# Altium schematic symbol library kmilo17pet-LT_PMIC_LT.SchLib: 2252 symbols (part 117 of 124)
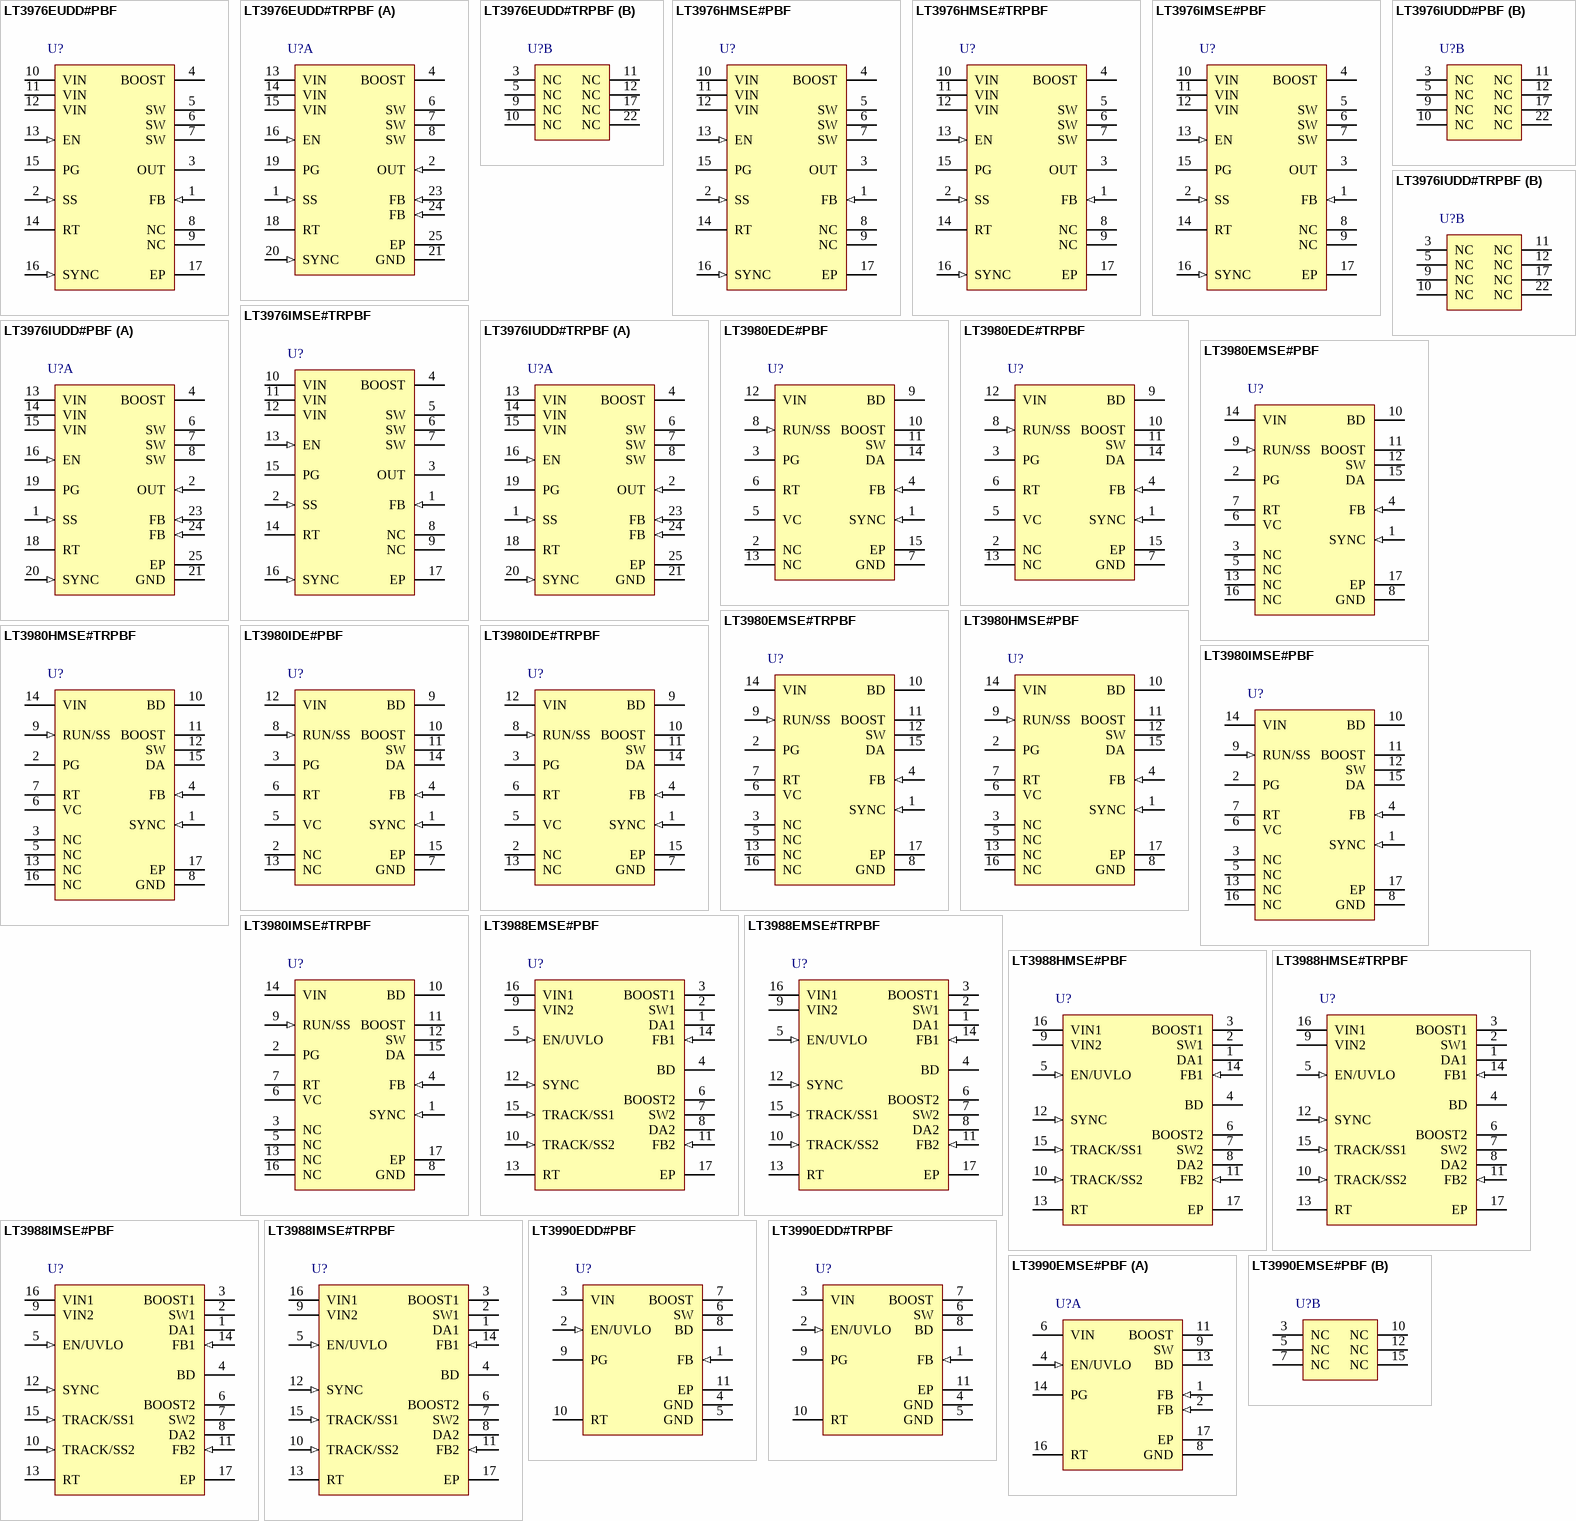
[diagram p187: symbols LT3976EUDD#PBF to LT3990EMSE#PBF]

## LT3988IMSE#TRPBF
designator U?
Dual 60 V Monolithic 1 A Step-Down Switching Regulator, 16-pin SOP (MSE-16-EDP), -40 to 125 degC, Pb-Free, Tape and Reel; Manufacturer: Linear Technology; PartNumber: LT3988IMSE#TRPBF; Number of Outputs: 2; PackageReference: MSE-16; PackageDescription: 16-Pin Plastic MSOP, Exposed Die Pad, Body 4.039 x 3 mm, Pitch 0.5 mm; Supplier 1: Digi-Key; Supplier Part Number 1: LT3988IMSE#TRPBF-ND; RoHS: TRUE
footprint LT-MSE-16-EDP_N (SOP, 16-Leads, Body 4.1x3.1mm, Pitch 0.5mm, Thermal Pad 2.95x1.76mm, IPC Medium Density)
footprint LT-MSE-16-EDP_L (SOP, 16-Leads, Body 4.1x3.1mm, Pitch 0.5mm, Thermal Pad 2.95x1.76mm, IPC High Density)
footprint LT-MSE-16-EDP_M (SOP, 16-Leads, Body 4.1x3.1mm, Pitch 0.5mm, Thermal Pad 2.95x1.76mm, IPC Low Density)
pins: 1 DA1 "Tie the DA pin to the anode of the external Schottky catch diode. If the DA pin current exceeds 1.32A, which could occur in an overload or short-circuit condition, switching is disabled until the DA pin current falls below 1.(See Datasheet)", 2 SW1 (power) "The SW pins are the outputs of the internal power switches. Connect these pins to the inductors, catch diodes and boost capacitors.", 3 BOOST1 "The BOOST pins are used to provide drive voltages, higher than the input voltage, to the internal NPN power switches.", 4 BD (power) "Internal boost diodes are connected between the BD pin and the BOOST pins. Connect BD to a 3V or higher supply, such as VOUT.", 5 EN/UVLO (in) "This pin is used to shut down the LT3988. It can be driven from a logic level, tied directly to the input, or used as an undervoltage lockout by connecting a resistor divider from VIN1.", 6 BOOST2 "The BOOST pins are used to provide drive voltages, higher than the input voltage, to the internal NPN power switches.", 7 SW2 (power) "The SW pins are the outputs of the internal power switches. Connect these pins to the inductors, catch diodes and boost capacitors.", 8 DA2 "Tie the DA pin to the anode of the external Schottky catch diode. If the DA pin current exceeds 1.32A, which could occur in an overload or short-circuit condition, switching is disabled until the DA pin current falls below 1.(See Datasheet)", 9 VIN2 (power) "The VIN2 pin supplies current to the internal power switch connected to SW2 and must be locally bypassed. Connect this pin directly to VIN1 unless power for channel 2 is coming from a different source. VIN2 must be greater (See Datasheet)", 10 TRACK/SS2 (in) "The TRACK/SS pins are used to soft-start the two channels, to allow one channel to track the other output, or to allow both channels to track another output. For tracking, tie a resistor divider to this pin from the tracked (See Datasheet)", 11 FB2 (in) "The LT3988 regulates each feedback pin to 0.750V. Connect the feedback resistor divider taps to these pins.", 12 SYNC (in) "To synchronize the part to an external frequency, drive the SYNC pin with a logic-level signal with positive and negative pulse widths of at least 100ns. If the SYNC function is not used, connect the SYNC pin to ground. If (See Datasheet)", 13 RT "The RT pin is used to set the internal oscillator frequency. Tie a resistor from RT to GND for the desired switching frequency.", 14 FB1 (in) "The LT3988 regulates each feedback pin to 0.750V. Connect the feedback resistor divider taps to these pins.", 15 TRACK/SS1 (in) "The TRACK/SS pins are used to soft-start the two channels, to allow one channel to track the other output, or to allow both channels to track another output. For tracking, tie a resistor divider to this pin from the tracked (See Datasheet)", 16 VIN1 (power) "The VIN1 pin supplies current to the LT3988 internal circuitry and to the internal power switch connected to SW1 and must be locally bypassed. VIN1 must be greater than 3.9V (typ) for channel 1 or channel 2 to operate.", 17 EP (power) "The exposed pad metal of the package provides both electrical contact to ground and good thermal contact to the printed circuit board. The exposed pad must be soldered to the circuit board for proper operation."

## LT3990EDD#PBF
designator U?
350 mA Step-Down Regulator with 2.5 uA Quiescent Current and Integrated Diodes, 10-pin SON (DD-10), -40 to 125 degC, Pb-Free; Manufacturer: Linear Technology; PartNumber: LT3990EDD#PBF; Number of Outputs: 1; PackageReference: DD-10; PackageDescription: 10-Pin Plastic DFN, Body 3 x 3 mm, Pitch 0.5 mm; Supplier 1: Digi-Key; Supplier Part Number 1: LT3990EDD#PBF-ND; RoHS: TRUE
footprint LT-DD-10_V (SON, 10-Leads, Body 3x3mm, Pitch 0.5mm, Thermal Pad 2.38x1.65mm)
pins: 1 FB (in) "The LT3990 regulates the FB pin to 1.21V. Connect the feedback resistor divider tap to this pin. The two FB pins on the MSE package are connected internally and provide a redundant path for the feedback divider. Tie the (See Datasheet)", 2 EN/UVLO (in) "The part is in shutdown when this pin is low and active when this pin is high. The threshold voltage is 1.19V going up with 35mV of hysteresis. Tie to VIN if shutdown feature is not used. The EN/UVLO threshold is accurate (See Datasheet)", 3 VIN (power) "The VIN pin supplies current to the LT3990’s internal circuitry and to the internal power switch. This pin must be locally bypassed.", 4 GND (power) "Ground.", 5 GND (power) "Ground.", 6 SW (power) "The SW pin is the output of an internal power switch. Connect this pin to the inductor.", 7 BOOST "This pin is used to provide a drive voltage, higher than the input voltage, to the internal bipolar NPN power switch.", 8 BD (power) "This pin connects to the anode of the boost diode. This pin also supplies current to the LT3990’s internal regulator when BD is above 3.2V.", 9 PG (oc) "The PG pin is the open-drain output of an internal comparator. PG remains low until the FB pin is within 10% of the final regulation voltage. PG is valid when VIN is above 4.2V and EN/UVLO is high.", 10 RT "A resistor is tied between RT and ground to set the switching frequency.", 11 EP (power) "The exposed pad must be soldered to the PCB."

## LT3990EDD#TRPBF
designator U?
350 mA Step-Down Regulator with 2.5 uA Quiescent Current and Integrated Diodes, 10-pin SON (DD-10), -40 to 125 degC, Pb-Free, Tape and Reel; Manufacturer: Linear Technology; PartNumber: LT3990EDD#TRPBF; Number of Outputs: 1; PackageReference: DD-10; PackageDescription: 10-Pin Plastic DFN, Body 3 x 3 mm, Pitch 0.5 mm; Supplier 1: Digi-Key; Supplier Part Number 1: LT3990EDD#TRPBF-ND; RoHS: TRUE
footprint LT-DD-10_V (SON, 10-Leads, Body 3x3mm, Pitch 0.5mm, Thermal Pad 2.38x1.65mm)
pins: 1 FB (in) "The LT3990 regulates the FB pin to 1.21V. Connect the feedback resistor divider tap to this pin. The two FB pins on the MSE package are connected internally and provide a redundant path for the feedback divider. Tie the (See Datasheet)", 2 EN/UVLO (in) "The part is in shutdown when this pin is low and active when this pin is high. The threshold voltage is 1.19V going up with 35mV of hysteresis. Tie to VIN if shutdown feature is not used. The EN/UVLO threshold is accurate (See Datasheet)", 3 VIN (power) "The VIN pin supplies current to the LT3990’s internal circuitry and to the internal power switch. This pin must be locally bypassed.", 4 GND (power) "Ground.", 5 GND (power) "Ground.", 6 SW (power) "The SW pin is the output of an internal power switch. Connect this pin to the inductor.", 7 BOOST "This pin is used to provide a drive voltage, higher than the input voltage, to the internal bipolar NPN power switch.", 8 BD (power) "This pin connects to the anode of the boost diode. This pin also supplies current to the LT3990’s internal regulator when BD is above 3.2V.", 9 PG (oc) "The PG pin is the open-drain output of an internal comparator. PG remains low until the FB pin is within 10% of the final regulation voltage. PG is valid when VIN is above 4.2V and EN/UVLO is high.", 10 RT "A resistor is tied between RT and ground to set the switching frequency.", 11 EP (power) "The exposed pad must be soldered to the PCB."

## LT3990EMSE#PBF
designator U?
350 mA Step-Down Regulator with 2.5 uA Quiescent Current and Integrated Diodes, 16-pin SOP (MSE-16-EDP), -40 to 125 degC, Pb-Free; Manufacturer: Linear Technology; PartNumber: LT3990EMSE#PBF; Number of Outputs: 1; PackageReference: MSE-16; PackageDescription: 16-Pin Plastic MSOP, Exposed Die Pad, Body 4.039 x 3 mm, Pitch 0.5 mm; Supplier 1: Digi-Key; Supplier Part Number 1: LT3990EMSE#PBF-ND; RoHS: TRUE
footprint LT-MSE-16-EDP_N (SOP, 16-Leads, Body 4.1x3.1mm, Pitch 0.5mm, Thermal Pad 2.95x1.76mm, IPC Medium Density)
footprint LT-MSE-16-EDP_L (SOP, 16-Leads, Body 4.1x3.1mm, Pitch 0.5mm, Thermal Pad 2.95x1.76mm, IPC High Density)
footprint LT-MSE-16-EDP_M (SOP, 16-Leads, Body 4.1x3.1mm, Pitch 0.5mm, Thermal Pad 2.95x1.76mm, IPC Low Density)
part A pins: 1 FB (in) "The LT3990 regulates the FB pin to 1.21V. Connect the feedback resistor divider tap to this pin. The two FB pins on the MSE package are connected internally and provide a redundant path for the feedback divider. Tie the (See Datasheet)", 2 FB (in) "The LT3990 regulates the FB pin to 1.21V. Connect the feedback resistor divider tap to this pin. The two FB pins on the MSE package are connected internally and provide a redundant path for the feedback divider. Tie the (See Datasheet)", 4 EN/UVLO (in) "The part is in shutdown when this pin is low and active when this pin is high. The threshold voltage is 1.19V going up with 35mV of hysteresis. Tie to VIN if shutdown feature is not used. The EN/UVLO threshold is accurate (See Datasheet)", 6 VIN (power) "The VIN pin supplies current to the LT3990’s internal circuitry and to the internal power switch. This pin must be locally bypassed.", 8 GND (power) "Ground. The exposed pad must be soldered to the PCB.", 9 SW (power) "The SW pin is the output of an internal power switch. Connect this pin to the inductor.", 11 BOOST "This pin is used to provide a drive voltage, higher than the input voltage, to the internal bipolar NPN power switch.", 13 BD (power) "This pin connects to the anode of the boost diode. This pin also supplies current to the LT3990’s internal regulator when BD is above 3.2V.", 14 PG (oc) "The PG pin is the open-drain output of an internal comparator. PG remains low until the FB pin is within 10% of the final regulation voltage. PG is valid when VIN is above 4.2V and EN/UVLO is high.", 16 RT "A resistor is tied between RT and ground to set the switching frequency.", 17 EP (power) "Ground. The exposed pad must be soldered to the PCB."
part B pins: 3 NC "No Connects. These pins are not connected to internal circuitry and must be left floating to ensure fault tolerance.", 5 NC "No Connects. These pins are not connected to internal circuitry and must be left floating to ensure fault tolerance.", 7 NC "No Connects. These pins are not connected to internal circuitry and must be left floating to ensure fault tolerance.", 10 NC "No Connects. These pins are not connected to internal circuitry and must be left floating to ensure fault tolerance.", 12 NC "No Connects. These pins are not connected to internal circuitry and must be left floating to ensure fault tolerance.", 15 NC "No Connects. These pins are not connected to internal circuitry and must be left floating to ensure fault tolerance."

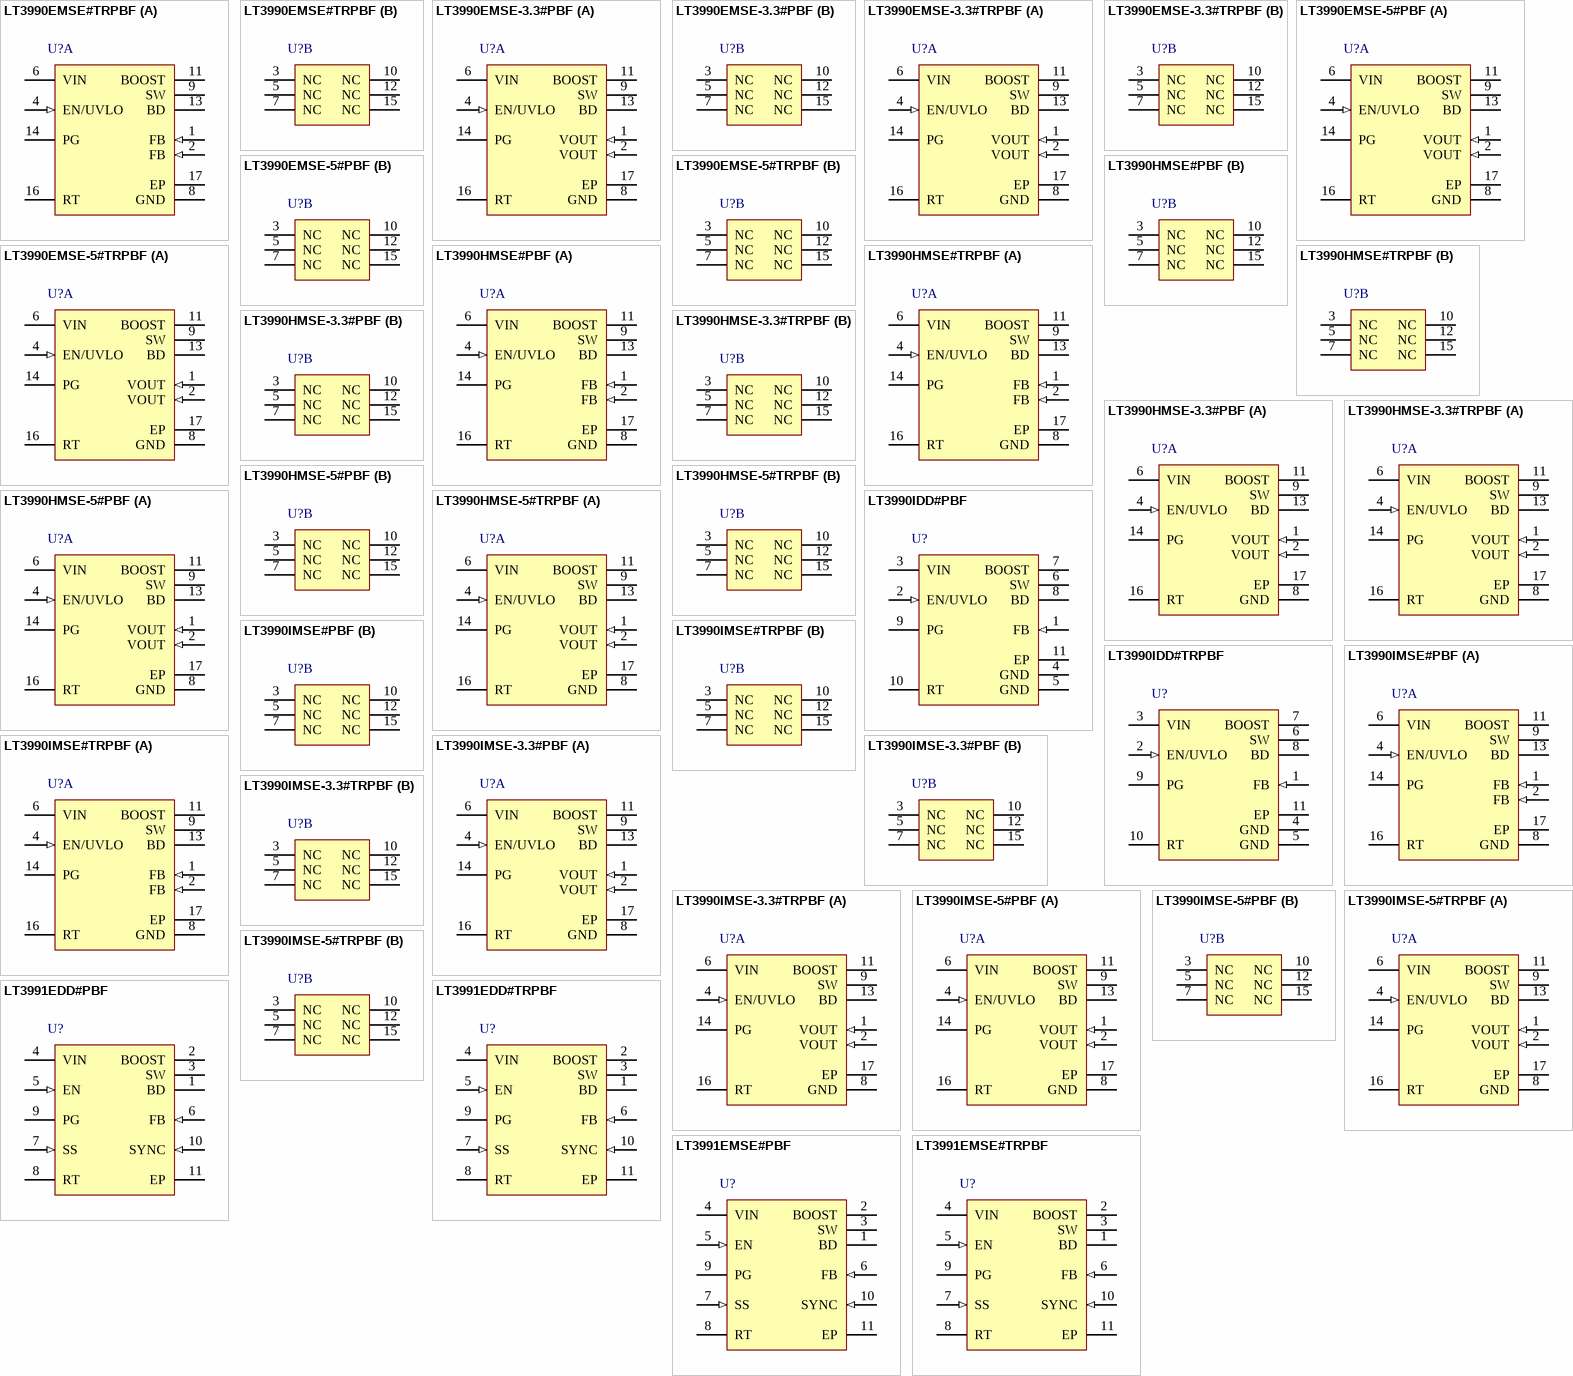
[diagram p67: symbols LT3990EMSE#TRPBF to LT3991EMSE#TRPBF]

## LT3990EMSE#TRPBF
designator U?
350 mA Step-Down Regulator with 2.5 uA Quiescent Current and Integrated Diodes, 16-pin SOP (MSE-16-EDP), -40 to 125 degC, Pb-Free, Tape and Reel; Manufacturer: Linear Technology; PartNumber: LT3990EMSE#TRPBF; Number of Outputs: 1; PackageReference: MSE-16; PackageDescription: 16-Pin Plastic MSOP, Exposed Die Pad, Body 4.039 x 3 mm, Pitch 0.5 mm; Supplier 1: Digi-Key; Supplier Part Number 1: LT3990EMSE#TRPBF-ND; RoHS: TRUE
footprint LT-MSE-16-EDP_N (SOP, 16-Leads, Body 4.1x3.1mm, Pitch 0.5mm, Thermal Pad 2.95x1.76mm, IPC Medium Density)
footprint LT-MSE-16-EDP_L (SOP, 16-Leads, Body 4.1x3.1mm, Pitch 0.5mm, Thermal Pad 2.95x1.76mm, IPC High Density)
footprint LT-MSE-16-EDP_M (SOP, 16-Leads, Body 4.1x3.1mm, Pitch 0.5mm, Thermal Pad 2.95x1.76mm, IPC Low Density)
part A pins: 1 FB (in) "The LT3990 regulates the FB pin to 1.21V. Connect the feedback resistor divider tap to this pin. The two FB pins on the MSE package are connected internally and provide a redundant path for the feedback divider. Tie the (See Datasheet)", 2 FB (in) "The LT3990 regulates the FB pin to 1.21V. Connect the feedback resistor divider tap to this pin. The two FB pins on the MSE package are connected internally and provide a redundant path for the feedback divider. Tie the (See Datasheet)", 4 EN/UVLO (in) "The part is in shutdown when this pin is low and active when this pin is high. The threshold voltage is 1.19V going up with 35mV of hysteresis. Tie to VIN if shutdown feature is not used. The EN/UVLO threshold is accurate (See Datasheet)", 6 VIN (power) "The VIN pin supplies current to the LT3990’s internal circuitry and to the internal power switch. This pin must be locally bypassed.", 8 GND (power) "Ground. The exposed pad must be soldered to the PCB.", 9 SW (power) "The SW pin is the output of an internal power switch. Connect this pin to the inductor.", 11 BOOST "This pin is used to provide a drive voltage, higher than the input voltage, to the internal bipolar NPN power switch.", 13 BD (power) "This pin connects to the anode of the boost diode. This pin also supplies current to the LT3990’s internal regulator when BD is above 3.2V.", 14 PG (oc) "The PG pin is the open-drain output of an internal comparator. PG remains low until the FB pin is within 10% of the final regulation voltage. PG is valid when VIN is above 4.2V and EN/UVLO is high.", 16 RT "A resistor is tied between RT and ground to set the switching frequency.", 17 EP (power) "Ground. The exposed pad must be soldered to the PCB."
part B pins: 3 NC "No Connects. These pins are not connected to internal circuitry and must be left floating to ensure fault tolerance.", 5 NC "No Connects. These pins are not connected to internal circuitry and must be left floating to ensure fault tolerance.", 7 NC "No Connects. These pins are not connected to internal circuitry and must be left floating to ensure fault tolerance.", 10 NC "No Connects. These pins are not connected to internal circuitry and must be left floating to ensure fault tolerance.", 12 NC "No Connects. These pins are not connected to internal circuitry and must be left floating to ensure fault tolerance.", 15 NC "No Connects. These pins are not connected to internal circuitry and must be left floating to ensure fault tolerance."

## LT3990EMSE-3.3#PBF
designator U?
350 mA Step-Down Regulator with 2.5 uA Quiescent Current and Integrated Diodes, 16-pin SOP (MSE-16-EDP), -40 to 125 degC, Pb-Free; Manufacturer: Linear Technology; PartNumber: LT3990EMSE-3.3#PBF; Number of Outputs: 1; PackageReference: MSE-16; PackageDescription: 16-Pin Plastic MSOP, Exposed Die Pad, Body 4.039 x 3 mm, Pitch 0.5 mm; Supplier 1: Farnell; Supplier Part Number 1: 2145074; RoHS: TRUE
footprint LT-MSE-16-EDP_N (SOP, 16-Leads, Body 4.1x3.1mm, Pitch 0.5mm, Thermal Pad 2.95x1.76mm, IPC Medium Density)
footprint LT-MSE-16-EDP_L (SOP, 16-Leads, Body 4.1x3.1mm, Pitch 0.5mm, Thermal Pad 2.95x1.76mm, IPC High Density)
footprint LT-MSE-16-EDP_M (SOP, 16-Leads, Body 4.1x3.1mm, Pitch 0.5mm, Thermal Pad 2.95x1.76mm, IPC Low Density)
part A pins: 1 VOUT (in) "The LT3990-3.3 and LT3990-5 regulate the VOUT pin to 3.3V and 5V, respectively. This pin connects to the internal feedback divider that programs the fixed output voltage. The two VOUT pins are connected internally and (See Datasheet)", 2 VOUT (in) "The LT3990-3.3 and LT3990-5 regulate the VOUT pin to 3.3V and 5V, respectively. This pin connects to the internal feedback divider that programs the fixed output voltage. The two VOUT pins are connected internally and (See Datasheet)", 4 EN/UVLO (in) "The part is in shutdown when this pin is low and active when this pin is high. The threshold voltage is 1.19V going up with 35mV of hysteresis. Tie to VIN if shutdown feature is not used. The EN/UVLO threshold is accurate (See Datasheet)", 6 VIN (power) "The VIN pin supplies current to the LT3990’s internal circuitry and to the internal power switch. This pin must be locally bypassed.", 8 GND (power) "Ground.", 9 SW (power) "The SW pin is the output of an internal power switch. Connect this pin to the inductor.", 11 BOOST "This pin is used to provide a drive voltage, higher than the input voltage, to the internal bipolar NPN power switch.", 13 BD (power) "This pin connects to the anode of the boost diode. This pin also supplies current to the LT3990’s internal regulator when BD is above 3.2V.", 14 PG (oc) "The PG pin is the open-drain output of an internal comparator. PG remains low until the FB pin is within 10% of the final regulation voltage. PG is valid when VIN is above 4.2V and EN/UVLO is high.", 16 RT "A resistor is tied between RT and ground to set the switching frequency.", 17 EP (power) "Ground. The exposed pad must be soldered to the PCB."
part B pins: 3 NC "No Connects. These pins are not connected to internal circuitry and must be left floating to ensure fault tolerance.", 5 NC "No Connects. These pins are not connected to internal circuitry and must be left floating to ensure fault tolerance.", 7 NC "No Connects. These pins are not connected to internal circuitry and must be left floating to ensure fault tolerance.", 10 NC "No Connects. These pins are not connected to internal circuitry and must be left floating to ensure fault tolerance.", 12 NC "No Connects. These pins are not connected to internal circuitry and must be left floating to ensure fault tolerance.", 15 NC "No Connects. These pins are not connected to internal circuitry and must be left floating to ensure fault tolerance."

## LT3990EMSE-3.3#TRPBF
designator U?
350 mA Step-Down Regulator with 2.5 uA Quiescent Current and Integrated Diodes, 16-pin SOP (MSE-16-EDP), -40 to 125 degC, Pb-Free, Tape and Reel; Manufacturer: Linear Technology; PartNumber: LT3990EMSE-3.3#TRPBF; Number of Outputs: 1; PackageReference: MSE-16; PackageDescription: 16-Pin Plastic MSOP, Exposed Die Pad, Body 4.039 x 3 mm, Pitch 0.5 mm; Supplier 1: Digi-Key; Supplier Part Number 1: LT3990EMSE-3.3#TRPBF-ND; RoHS: TRUE
footprint LT-MSE-16-EDP_N (SOP, 16-Leads, Body 4.1x3.1mm, Pitch 0.5mm, Thermal Pad 2.95x1.76mm, IPC Medium Density)
footprint LT-MSE-16-EDP_L (SOP, 16-Leads, Body 4.1x3.1mm, Pitch 0.5mm, Thermal Pad 2.95x1.76mm, IPC High Density)
footprint LT-MSE-16-EDP_M (SOP, 16-Leads, Body 4.1x3.1mm, Pitch 0.5mm, Thermal Pad 2.95x1.76mm, IPC Low Density)
part A pins: 1 VOUT (in) "The LT3990-3.3 and LT3990-5 regulate the VOUT pin to 3.3V and 5V, respectively. This pin connects to the internal feedback divider that programs the fixed output voltage. The two VOUT pins are connected internally and (See Datasheet)", 2 VOUT (in) "The LT3990-3.3 and LT3990-5 regulate the VOUT pin to 3.3V and 5V, respectively. This pin connects to the internal feedback divider that programs the fixed output voltage. The two VOUT pins are connected internally and (See Datasheet)", 4 EN/UVLO (in) "The part is in shutdown when this pin is low and active when this pin is high. The threshold voltage is 1.19V going up with 35mV of hysteresis. Tie to VIN if shutdown feature is not used. The EN/UVLO threshold is accurate (See Datasheet)", 6 VIN (power) "The VIN pin supplies current to the LT3990’s internal circuitry and to the internal power switch. This pin must be locally bypassed.", 8 GND (power) "Ground.", 9 SW (power) "The SW pin is the output of an internal power switch. Connect this pin to the inductor.", 11 BOOST "This pin is used to provide a drive voltage, higher than the input voltage, to the internal bipolar NPN power switch.", 13 BD (power) "This pin connects to the anode of the boost diode. This pin also supplies current to the LT3990’s internal regulator when BD is above 3.2V.", 14 PG (oc) "The PG pin is the open-drain output of an internal comparator. PG remains low until the FB pin is within 10% of the final regulation voltage. PG is valid when VIN is above 4.2V and EN/UVLO is high.", 16 RT "A resistor is tied between RT and ground to set the switching frequency.", 17 EP (power) "Ground. The exposed pad must be soldered to the PCB."
part B pins: 3 NC "No Connects. These pins are not connected to internal circuitry and must be left floating to ensure fault tolerance.", 5 NC "No Connects. These pins are not connected to internal circuitry and must be left floating to ensure fault tolerance.", 7 NC "No Connects. These pins are not connected to internal circuitry and must be left floating to ensure fault tolerance.", 10 NC "No Connects. These pins are not connected to internal circuitry and must be left floating to ensure fault tolerance.", 12 NC "No Connects. These pins are not connected to internal circuitry and must be left floating to ensure fault tolerance.", 15 NC "No Connects. These pins are not connected to internal circuitry and must be left floating to ensure fault tolerance."

## LT3990EMSE-5#PBF
designator U?
350 mA Step-Down Regulator with 2.5 uA Quiescent Current and Integrated Diodes, 16-pin SOP (MSE-16-EDP), -40 to 125 degC, Pb-Free; Manufacturer: Linear Technology; PartNumber: LT3990EMSE-5#PBF; Number of Outputs: 1; PackageReference: MSE-16; PackageDescription: 16-Pin Plastic MSOP, Exposed Die Pad, Body 4.039 x 3 mm, Pitch 0.5 mm; Supplier 1: Farnell; Supplier Part Number 1: 2145075; RoHS: TRUE
footprint LT-MSE-16-EDP_N (SOP, 16-Leads, Body 4.1x3.1mm, Pitch 0.5mm, Thermal Pad 2.95x1.76mm, IPC Medium Density)
footprint LT-MSE-16-EDP_L (SOP, 16-Leads, Body 4.1x3.1mm, Pitch 0.5mm, Thermal Pad 2.95x1.76mm, IPC High Density)
footprint LT-MSE-16-EDP_M (SOP, 16-Leads, Body 4.1x3.1mm, Pitch 0.5mm, Thermal Pad 2.95x1.76mm, IPC Low Density)
part A pins: 1 VOUT (in) "The LT3990-3.3 and LT3990-5 regulate the VOUT pin to 3.3V and 5V, respectively. This pin connects to the internal feedback divider that programs the fixed output voltage. The two VOUT pins are connected internally and (See Datasheet)", 2 VOUT (in) "The LT3990-3.3 and LT3990-5 regulate the VOUT pin to 3.3V and 5V, respectively. This pin connects to the internal feedback divider that programs the fixed output voltage. The two VOUT pins are connected internally and (See Datasheet)", 4 EN/UVLO (in) "The part is in shutdown when this pin is low and active when this pin is high. The threshold voltage is 1.19V going up with 35mV of hysteresis. Tie to VIN if shutdown feature is not used. The EN/UVLO threshold is accurate (See Datasheet)", 6 VIN (power) "The VIN pin supplies current to the LT3990’s internal circuitry and to the internal power switch. This pin must be locally bypassed.", 8 GND (power) "Ground.", 9 SW (power) "The SW pin is the output of an internal power switch. Connect this pin to the inductor.", 11 BOOST "This pin is used to provide a drive voltage, higher than the input voltage, to the internal bipolar NPN power switch.", 13 BD (power) "This pin connects to the anode of the boost diode. This pin also supplies current to the LT3990’s internal regulator when BD is above 3.2V.", 14 PG (oc) "The PG pin is the open-drain output of an internal comparator. PG remains low until the FB pin is within 10% of the final regulation voltage. PG is valid when VIN is above 4.2V and EN/UVLO is high.", 16 RT "A resistor is tied between RT and ground to set the switching frequency.", 17 EP (power) "Ground. The exposed pad must be soldered to the PCB."
part B pins: 3 NC "No Connects. These pins are not connected to internal circuitry and must be left floating to ensure fault tolerance.", 5 NC "No Connects. These pins are not connected to internal circuitry and must be left floating to ensure fault tolerance.", 7 NC "No Connects. These pins are not connected to internal circuitry and must be left floating to ensure fault tolerance.", 10 NC "No Connects. These pins are not connected to internal circuitry and must be left floating to ensure fault tolerance.", 12 NC "No Connects. These pins are not connected to internal circuitry and must be left floating to ensure fault tolerance.", 15 NC "No Connects. These pins are not connected to internal circuitry and must be left floating to ensure fault tolerance."

## LT3990EMSE-5#TRPBF
designator U?
350 mA Step-Down Regulator with 2.5 uA Quiescent Current and Integrated Diodes, 16-pin SOP (MSE-16-EDP), -40 to 125 degC, Pb-Free, Tape and Reel; Manufacturer: Linear Technology; PartNumber: LT3990EMSE-5#TRPBF; Number of Outputs: 1; PackageReference: MSE-16; PackageDescription: 16-Pin Plastic MSOP, Exposed Die Pad, Body 4.039 x 3 mm, Pitch 0.5 mm; Supplier 1: Digi-Key; Supplier Part Number 1: LT3990EMSE-5#TRPBF-ND; RoHS: TRUE
footprint LT-MSE-16-EDP_N (SOP, 16-Leads, Body 4.1x3.1mm, Pitch 0.5mm, Thermal Pad 2.95x1.76mm, IPC Medium Density)
footprint LT-MSE-16-EDP_L (SOP, 16-Leads, Body 4.1x3.1mm, Pitch 0.5mm, Thermal Pad 2.95x1.76mm, IPC High Density)
footprint LT-MSE-16-EDP_M (SOP, 16-Leads, Body 4.1x3.1mm, Pitch 0.5mm, Thermal Pad 2.95x1.76mm, IPC Low Density)
part A pins: 1 VOUT (in) "The LT3990-3.3 and LT3990-5 regulate the VOUT pin to 3.3V and 5V, respectively. This pin connects to the internal feedback divider that programs the fixed output voltage. The two VOUT pins are connected internally and (See Datasheet)", 2 VOUT (in) "The LT3990-3.3 and LT3990-5 regulate the VOUT pin to 3.3V and 5V, respectively. This pin connects to the internal feedback divider that programs the fixed output voltage. The two VOUT pins are connected internally and (See Datasheet)", 4 EN/UVLO (in) "The part is in shutdown when this pin is low and active when this pin is high. The threshold voltage is 1.19V going up with 35mV of hysteresis. Tie to VIN if shutdown feature is not used. The EN/UVLO threshold is accurate (See Datasheet)", 6 VIN (power) "The VIN pin supplies current to the LT3990’s internal circuitry and to the internal power switch. This pin must be locally bypassed.", 8 GND (power) "Ground.", 9 SW (power) "The SW pin is the output of an internal power switch. Connect this pin to the inductor.", 11 BOOST "This pin is used to provide a drive voltage, higher than the input voltage, to the internal bipolar NPN power switch.", 13 BD (power) "This pin connects to the anode of the boost diode. This pin also supplies current to the LT3990’s internal regulator when BD is above 3.2V.", 14 PG (oc) "The PG pin is the open-drain output of an internal comparator. PG remains low until the FB pin is within 10% of the final regulation voltage. PG is valid when VIN is above 4.2V and EN/UVLO is high.", 16 RT "A resistor is tied between RT and ground to set the switching frequency.", 17 EP (power) "Ground. The exposed pad must be soldered to the PCB."
part B pins: 3 NC "No Connects. These pins are not connected to internal circuitry and must be left floating to ensure fault tolerance.", 5 NC "No Connects. These pins are not connected to internal circuitry and must be left floating to ensure fault tolerance.", 7 NC "No Connects. These pins are not connected to internal circuitry and must be left floating to ensure fault tolerance.", 10 NC "No Connects. These pins are not connected to internal circuitry and must be left floating to ensure fault tolerance.", 12 NC "No Connects. These pins are not connected to internal circuitry and must be left floating to ensure fault tolerance.", 15 NC "No Connects. These pins are not connected to internal circuitry and must be left floating to ensure fault tolerance."

## LT3990HMSE#PBF
designator U?
350 mA Step-Down Regulator with 2.5 uA Quiescent Current and Integrated Diodes, 16-pin SOP (MSE-16-EDP), -40 to 150 degC, Pb-Free; Manufacturer: Linear Technology; PartNumber: LT3990HMSE#PBF; Number of Outputs: 1; PackageReference: MSE-16; PackageDescription: 16-Pin Plastic MSOP, Exposed Die Pad, Body 4.039 x 3 mm, Pitch 0.5 mm; Supplier 1: Digi-Key; Supplier Part Number 1: LT3990HMSE#PBF-ND; RoHS: TRUE
footprint LT-MSE-16-EDP_N (SOP, 16-Leads, Body 4.1x3.1mm, Pitch 0.5mm, Thermal Pad 2.95x1.76mm, IPC Medium Density)
footprint LT-MSE-16-EDP_L (SOP, 16-Leads, Body 4.1x3.1mm, Pitch 0.5mm, Thermal Pad 2.95x1.76mm, IPC High Density)
footprint LT-MSE-16-EDP_M (SOP, 16-Leads, Body 4.1x3.1mm, Pitch 0.5mm, Thermal Pad 2.95x1.76mm, IPC Low Density)
part A pins: 1 FB (in) "The LT3990 regulates the FB pin to 1.21V. Connect the feedback resistor divider tap to this pin. The two FB pins on the MSE package are connected internally and provide a redundant path for the feedback divider. Tie the (See Datasheet)", 2 FB (in) "The LT3990 regulates the FB pin to 1.21V. Connect the feedback resistor divider tap to this pin. The two FB pins on the MSE package are connected internally and provide a redundant path for the feedback divider. Tie the (See Datasheet)", 4 EN/UVLO (in) "The part is in shutdown when this pin is low and active when this pin is high. The threshold voltage is 1.19V going up with 35mV of hysteresis. Tie to VIN if shutdown feature is not used. The EN/UVLO threshold is accurate (See Datasheet)", 6 VIN (power) "The VIN pin supplies current to the LT3990’s internal circuitry and to the internal power switch. This pin must be locally bypassed.", 8 GND (power) "Ground. The exposed pad must be soldered to the PCB.", 9 SW (power) "The SW pin is the output of an internal power switch. Connect this pin to the inductor.", 11 BOOST "This pin is used to provide a drive voltage, higher than the input voltage, to the internal bipolar NPN power switch.", 13 BD (power) "This pin connects to the anode of the boost diode. This pin also supplies current to the LT3990’s internal regulator when BD is above 3.2V.", 14 PG (oc) "The PG pin is the open-drain output of an internal comparator. PG remains low until the FB pin is within 10% of the final regulation voltage. PG is valid when VIN is above 4.2V and EN/UVLO is high.", 16 RT "A resistor is tied between RT and ground to set the switching frequency.", 17 EP (power) "Ground. The exposed pad must be soldered to the PCB."
part B pins: 3 NC "No Connects. These pins are not connected to internal circuitry and must be left floating to ensure fault tolerance.", 5 NC "No Connects. These pins are not connected to internal circuitry and must be left floating to ensure fault tolerance.", 7 NC "No Connects. These pins are not connected to internal circuitry and must be left floating to ensure fault tolerance.", 10 NC "No Connects. These pins are not connected to internal circuitry and must be left floating to ensure fault tolerance.", 12 NC "No Connects. These pins are not connected to internal circuitry and must be left floating to ensure fault tolerance.", 15 NC "No Connects. These pins are not connected to internal circuitry and must be left floating to ensure fault tolerance."

## LT3990HMSE#TRPBF
designator U?
350 mA Step-Down Regulator with 2.5 uA Quiescent Current and Integrated Diodes, 16-pin SOP (MSE-16-EDP), -40 to 150 degC, Pb-Free, Tape and Reel; Manufacturer: Linear Technology; PartNumber: LT3990HMSE#TRPBF; Number of Outputs: 1; PackageReference: MSE-16; PackageDescription: 16-Pin Plastic MSOP, Exposed Die Pad, Body 4.039 x 3 mm, Pitch 0.5 mm; Supplier 1: Digi-Key; Supplier Part Number 1: LT3990HMSE#TRPBF-ND; RoHS: TRUE
footprint LT-MSE-16-EDP_N (SOP, 16-Leads, Body 4.1x3.1mm, Pitch 0.5mm, Thermal Pad 2.95x1.76mm, IPC Medium Density)
footprint LT-MSE-16-EDP_L (SOP, 16-Leads, Body 4.1x3.1mm, Pitch 0.5mm, Thermal Pad 2.95x1.76mm, IPC High Density)
footprint LT-MSE-16-EDP_M (SOP, 16-Leads, Body 4.1x3.1mm, Pitch 0.5mm, Thermal Pad 2.95x1.76mm, IPC Low Density)
part A pins: 1 FB (in) "The LT3990 regulates the FB pin to 1.21V. Connect the feedback resistor divider tap to this pin. The two FB pins on the MSE package are connected internally and provide a redundant path for the feedback divider. Tie the (See Datasheet)", 2 FB (in) "The LT3990 regulates the FB pin to 1.21V. Connect the feedback resistor divider tap to this pin. The two FB pins on the MSE package are connected internally and provide a redundant path for the feedback divider. Tie the (See Datasheet)", 4 EN/UVLO (in) "The part is in shutdown when this pin is low and active when this pin is high. The threshold voltage is 1.19V going up with 35mV of hysteresis. Tie to VIN if shutdown feature is not used. The EN/UVLO threshold is accurate (See Datasheet)", 6 VIN (power) "The VIN pin supplies current to the LT3990’s internal circuitry and to the internal power switch. This pin must be locally bypassed.", 8 GND (power) "Ground. The exposed pad must be soldered to the PCB.", 9 SW (power) "The SW pin is the output of an internal power switch. Connect this pin to the inductor.", 11 BOOST "This pin is used to provide a drive voltage, higher than the input voltage, to the internal bipolar NPN power switch.", 13 BD (power) "This pin connects to the anode of the boost diode. This pin also supplies current to the LT3990’s internal regulator when BD is above 3.2V.", 14 PG (oc) "The PG pin is the open-drain output of an internal comparator. PG remains low until the FB pin is within 10% of the final regulation voltage. PG is valid when VIN is above 4.2V and EN/UVLO is high.", 16 RT "A resistor is tied between RT and ground to set the switching frequency.", 17 EP (power) "Ground. The exposed pad must be soldered to the PCB."
part B pins: 3 NC "No Connects. These pins are not connected to internal circuitry and must be left floating to ensure fault tolerance.", 5 NC "No Connects. These pins are not connected to internal circuitry and must be left floating to ensure fault tolerance.", 7 NC "No Connects. These pins are not connected to internal circuitry and must be left floating to ensure fault tolerance.", 10 NC "No Connects. These pins are not connected to internal circuitry and must be left floating to ensure fault tolerance.", 12 NC "No Connects. These pins are not connected to internal circuitry and must be left floating to ensure fault tolerance.", 15 NC "No Connects. These pins are not connected to internal circuitry and must be left floating to ensure fault tolerance."

## LT3990HMSE-3.3#PBF
designator U?
350 mA Step-Down Regulator with 2.5 uA Quiescent Current and Integrated Diodes, 16-pin SOP (MSE-16-EDP), -40 to 150 degC, Pb-Free; Manufacturer: Linear Technology; PartNumber: LT3990HMSE-3.3#PBF; Number of Outputs: 1; PackageReference: MSE-16; PackageDescription: 16-Pin Plastic MSOP, Exposed Die Pad, Body 4.039 x 3 mm, Pitch 0.5 mm; Supplier 1: Digi-Key; Supplier Part Number 1: LT3990HMSE-3.3#PBF-ND; RoHS: TRUE
footprint LT-MSE-16-EDP_N (SOP, 16-Leads, Body 4.1x3.1mm, Pitch 0.5mm, Thermal Pad 2.95x1.76mm, IPC Medium Density)
footprint LT-MSE-16-EDP_L (SOP, 16-Leads, Body 4.1x3.1mm, Pitch 0.5mm, Thermal Pad 2.95x1.76mm, IPC High Density)
footprint LT-MSE-16-EDP_M (SOP, 16-Leads, Body 4.1x3.1mm, Pitch 0.5mm, Thermal Pad 2.95x1.76mm, IPC Low Density)
part A pins: 1 VOUT (in) "The LT3990-3.3 and LT3990-5 regulate the VOUT pin to 3.3V and 5V, respectively. This pin connects to the internal feedback divider that programs the fixed output voltage. The two VOUT pins are connected internally and (See Datasheet)", 2 VOUT (in) "The LT3990-3.3 and LT3990-5 regulate the VOUT pin to 3.3V and 5V, respectively. This pin connects to the internal feedback divider that programs the fixed output voltage. The two VOUT pins are connected internally and (See Datasheet)", 4 EN/UVLO (in) "The part is in shutdown when this pin is low and active when this pin is high. The threshold voltage is 1.19V going up with 35mV of hysteresis. Tie to VIN if shutdown feature is not used. The EN/UVLO threshold is accurate (See Datasheet)", 6 VIN (power) "The VIN pin supplies current to the LT3990’s internal circuitry and to the internal power switch. This pin must be locally bypassed.", 8 GND (power) "Ground.", 9 SW (power) "The SW pin is the output of an internal power switch. Connect this pin to the inductor.", 11 BOOST "This pin is used to provide a drive voltage, higher than the input voltage, to the internal bipolar NPN power switch.", 13 BD (power) "This pin connects to the anode of the boost diode. This pin also supplies current to the LT3990’s internal regulator when BD is above 3.2V.", 14 PG (oc) "The PG pin is the open-drain output of an internal comparator. PG remains low until the FB pin is within 10% of the final regulation voltage. PG is valid when VIN is above 4.2V and EN/UVLO is high.", 16 RT "A resistor is tied between RT and ground to set the switching frequency.", 17 EP (power) "Ground. The exposed pad must be soldered to the PCB."
part B pins: 3 NC "No Connects. These pins are not connected to internal circuitry and must be left floating to ensure fault tolerance.", 5 NC "No Connects. These pins are not connected to internal circuitry and must be left floating to ensure fault tolerance.", 7 NC "No Connects. These pins are not connected to internal circuitry and must be left floating to ensure fault tolerance.", 10 NC "No Connects. These pins are not connected to internal circuitry and must be left floating to ensure fault tolerance.", 12 NC "No Connects. These pins are not connected to internal circuitry and must be left floating to ensure fault tolerance.", 15 NC "No Connects. These pins are not connected to internal circuitry and must be left floating to ensure fault tolerance."

## LT3990HMSE-3.3#TRPBF
designator U?
350 mA Step-Down Regulator with 2.5 uA Quiescent Current and Integrated Diodes, 16-pin SOP (MSE-16-EDP), -40 to 150 degC, Pb-Free, Tape and Reel; Manufacturer: Linear Technology; PartNumber: LT3990HMSE-3.3#TRPBF; Number of Outputs: 1; PackageReference: MSE-16; PackageDescription: 16-Pin Plastic MSOP, Exposed Die Pad, Body 4.039 x 3 mm, Pitch 0.5 mm; Supplier 1: Digi-Key; Supplier Part Number 1: LT3990HMSE-3.3#TRPBF-ND; RoHS: TRUE
footprint LT-MSE-16-EDP_N (SOP, 16-Leads, Body 4.1x3.1mm, Pitch 0.5mm, Thermal Pad 2.95x1.76mm, IPC Medium Density)
footprint LT-MSE-16-EDP_L (SOP, 16-Leads, Body 4.1x3.1mm, Pitch 0.5mm, Thermal Pad 2.95x1.76mm, IPC High Density)
footprint LT-MSE-16-EDP_M (SOP, 16-Leads, Body 4.1x3.1mm, Pitch 0.5mm, Thermal Pad 2.95x1.76mm, IPC Low Density)
part A pins: 1 VOUT (in) "The LT3990-3.3 and LT3990-5 regulate the VOUT pin to 3.3V and 5V, respectively. This pin connects to the internal feedback divider that programs the fixed output voltage. The two VOUT pins are connected internally and (See Datasheet)", 2 VOUT (in) "The LT3990-3.3 and LT3990-5 regulate the VOUT pin to 3.3V and 5V, respectively. This pin connects to the internal feedback divider that programs the fixed output voltage. The two VOUT pins are connected internally and (See Datasheet)", 4 EN/UVLO (in) "The part is in shutdown when this pin is low and active when this pin is high. The threshold voltage is 1.19V going up with 35mV of hysteresis. Tie to VIN if shutdown feature is not used. The EN/UVLO threshold is accurate (See Datasheet)", 6 VIN (power) "The VIN pin supplies current to the LT3990’s internal circuitry and to the internal power switch. This pin must be locally bypassed.", 8 GND (power) "Ground.", 9 SW (power) "The SW pin is the output of an internal power switch. Connect this pin to the inductor.", 11 BOOST "This pin is used to provide a drive voltage, higher than the input voltage, to the internal bipolar NPN power switch.", 13 BD (power) "This pin connects to the anode of the boost diode. This pin also supplies current to the LT3990’s internal regulator when BD is above 3.2V.", 14 PG (oc) "The PG pin is the open-drain output of an internal comparator. PG remains low until the FB pin is within 10% of the final regulation voltage. PG is valid when VIN is above 4.2V and EN/UVLO is high.", 16 RT "A resistor is tied between RT and ground to set the switching frequency.", 17 EP (power) "Ground. The exposed pad must be soldered to the PCB."
part B pins: 3 NC "No Connects. These pins are not connected to internal circuitry and must be left floating to ensure fault tolerance.", 5 NC "No Connects. These pins are not connected to internal circuitry and must be left floating to ensure fault tolerance.", 7 NC "No Connects. These pins are not connected to internal circuitry and must be left floating to ensure fault tolerance.", 10 NC "No Connects. These pins are not connected to internal circuitry and must be left floating to ensure fault tolerance.", 12 NC "No Connects. These pins are not connected to internal circuitry and must be left floating to ensure fault tolerance.", 15 NC "No Connects. These pins are not connected to internal circuitry and must be left floating to ensure fault tolerance."

## LT3990HMSE-5#PBF
designator U?
350 mA Step-Down Regulator with 2.5 uA Quiescent Current and Integrated Diodes, 16-pin SOP (MSE-16-EDP), -40 to 150 degC, Pb-Free; Manufacturer: Linear Technology; PartNumber: LT3990HMSE-5#PBF; Number of Outputs: 1; PackageReference: MSE-16; PackageDescription: 16-Pin Plastic MSOP, Exposed Die Pad, Body 4.039 x 3 mm, Pitch 0.5 mm; Supplier 1: Digi-Key; Supplier Part Number 1: LT3990HMSE-5#PBF-ND; RoHS: TRUE
footprint LT-MSE-16-EDP_N (SOP, 16-Leads, Body 4.1x3.1mm, Pitch 0.5mm, Thermal Pad 2.95x1.76mm, IPC Medium Density)
footprint LT-MSE-16-EDP_L (SOP, 16-Leads, Body 4.1x3.1mm, Pitch 0.5mm, Thermal Pad 2.95x1.76mm, IPC High Density)
footprint LT-MSE-16-EDP_M (SOP, 16-Leads, Body 4.1x3.1mm, Pitch 0.5mm, Thermal Pad 2.95x1.76mm, IPC Low Density)
part A pins: 1 VOUT (in) "The LT3990-3.3 and LT3990-5 regulate the VOUT pin to 3.3V and 5V, respectively. This pin connects to the internal feedback divider that programs the fixed output voltage. The two VOUT pins are connected internally and (See Datasheet)", 2 VOUT (in) "The LT3990-3.3 and LT3990-5 regulate the VOUT pin to 3.3V and 5V, respectively. This pin connects to the internal feedback divider that programs the fixed output voltage. The two VOUT pins are connected internally and (See Datasheet)", 4 EN/UVLO (in) "The part is in shutdown when this pin is low and active when this pin is high. The threshold voltage is 1.19V going up with 35mV of hysteresis. Tie to VIN if shutdown feature is not used. The EN/UVLO threshold is accurate (See Datasheet)", 6 VIN (power) "The VIN pin supplies current to the LT3990’s internal circuitry and to the internal power switch. This pin must be locally bypassed.", 8 GND (power) "Ground.", 9 SW (power) "The SW pin is the output of an internal power switch. Connect this pin to the inductor.", 11 BOOST "This pin is used to provide a drive voltage, higher than the input voltage, to the internal bipolar NPN power switch.", 13 BD (power) "This pin connects to the anode of the boost diode. This pin also supplies current to the LT3990’s internal regulator when BD is above 3.2V.", 14 PG (oc) "The PG pin is the open-drain output of an internal comparator. PG remains low until the FB pin is within 10% of the final regulation voltage. PG is valid when VIN is above 4.2V and EN/UVLO is high.", 16 RT "A resistor is tied between RT and ground to set the switching frequency.", 17 EP (power) "Ground. The exposed pad must be soldered to the PCB."
part B pins: 3 NC "No Connects. These pins are not connected to internal circuitry and must be left floating to ensure fault tolerance.", 5 NC "No Connects. These pins are not connected to internal circuitry and must be left floating to ensure fault tolerance.", 7 NC "No Connects. These pins are not connected to internal circuitry and must be left floating to ensure fault tolerance.", 10 NC "No Connects. These pins are not connected to internal circuitry and must be left floating to ensure fault tolerance.", 12 NC "No Connects. These pins are not connected to internal circuitry and must be left floating to ensure fault tolerance.", 15 NC "No Connects. These pins are not connected to internal circuitry and must be left floating to ensure fault tolerance."

## LT3990HMSE-5#TRPBF
designator U?
350 mA Step-Down Regulator with 2.5 uA Quiescent Current and Integrated Diodes, 16-pin SOP (MSE-16-EDP), -40 to 150 degC, Pb-Free, Tape and Reel; Manufacturer: Linear Technology; PartNumber: LT3990HMSE-5#TRPBF; Number of Outputs: 1; PackageReference: MSE-16; PackageDescription: 16-Pin Plastic MSOP, Exposed Die Pad, Body 4.039 x 3 mm, Pitch 0.5 mm; Supplier 1: Digi-Key; Supplier Part Number 1: LT3990HMSE-5#TRPBF-ND; RoHS: TRUE
footprint LT-MSE-16-EDP_N (SOP, 16-Leads, Body 4.1x3.1mm, Pitch 0.5mm, Thermal Pad 2.95x1.76mm, IPC Medium Density)
footprint LT-MSE-16-EDP_L (SOP, 16-Leads, Body 4.1x3.1mm, Pitch 0.5mm, Thermal Pad 2.95x1.76mm, IPC High Density)
footprint LT-MSE-16-EDP_M (SOP, 16-Leads, Body 4.1x3.1mm, Pitch 0.5mm, Thermal Pad 2.95x1.76mm, IPC Low Density)
part A pins: 1 VOUT (in) "The LT3990-3.3 and LT3990-5 regulate the VOUT pin to 3.3V and 5V, respectively. This pin connects to the internal feedback divider that programs the fixed output voltage. The two VOUT pins are connected internally and (See Datasheet)", 2 VOUT (in) "The LT3990-3.3 and LT3990-5 regulate the VOUT pin to 3.3V and 5V, respectively. This pin connects to the internal feedback divider that programs the fixed output voltage. The two VOUT pins are connected internally and (See Datasheet)", 4 EN/UVLO (in) "The part is in shutdown when this pin is low and active when this pin is high. The threshold voltage is 1.19V going up with 35mV of hysteresis. Tie to VIN if shutdown feature is not used. The EN/UVLO threshold is accurate (See Datasheet)", 6 VIN (power) "The VIN pin supplies current to the LT3990’s internal circuitry and to the internal power switch. This pin must be locally bypassed.", 8 GND (power) "Ground.", 9 SW (power) "The SW pin is the output of an internal power switch. Connect this pin to the inductor.", 11 BOOST "This pin is used to provide a drive voltage, higher than the input voltage, to the internal bipolar NPN power switch.", 13 BD (power) "This pin connects to the anode of the boost diode. This pin also supplies current to the LT3990’s internal regulator when BD is above 3.2V.", 14 PG (oc) "The PG pin is the open-drain output of an internal comparator. PG remains low until the FB pin is within 10% of the final regulation voltage. PG is valid when VIN is above 4.2V and EN/UVLO is high.", 16 RT "A resistor is tied between RT and ground to set the switching frequency.", 17 EP (power) "Ground. The exposed pad must be soldered to the PCB."
part B pins: 3 NC "No Connects. These pins are not connected to internal circuitry and must be left floating to ensure fault tolerance.", 5 NC "No Connects. These pins are not connected to internal circuitry and must be left floating to ensure fault tolerance.", 7 NC "No Connects. These pins are not connected to internal circuitry and must be left floating to ensure fault tolerance.", 10 NC "No Connects. These pins are not connected to internal circuitry and must be left floating to ensure fault tolerance.", 12 NC "No Connects. These pins are not connected to internal circuitry and must be left floating to ensure fault tolerance.", 15 NC "No Connects. These pins are not connected to internal circuitry and must be left floating to ensure fault tolerance."

## LT3990IDD#PBF
designator U?
350 mA Step-Down Regulator with 2.5 uA Quiescent Current and Integrated Diodes, 10-pin SON (DD-10), -40 to 125 degC, Pb-Free; Manufacturer: Linear Technology; PartNumber: LT3990IDD#PBF; Number of Outputs: 1; PackageReference: DD-10; PackageDescription: 10-Pin Plastic DFN, Body 3 x 3 mm, Pitch 0.5 mm; Supplier 1: Digi-Key; Supplier Part Number 1: LT3990IDD#PBF-ND; RoHS: TRUE
footprint LT-DD-10_V (SON, 10-Leads, Body 3x3mm, Pitch 0.5mm, Thermal Pad 2.38x1.65mm)
pins: 1 FB (in) "The LT3990 regulates the FB pin to 1.21V. Connect the feedback resistor divider tap to this pin. The two FB pins on the MSE package are connected internally and provide a redundant path for the feedback divider. Tie the (See Datasheet)", 2 EN/UVLO (in) "The part is in shutdown when this pin is low and active when this pin is high. The threshold voltage is 1.19V going up with 35mV of hysteresis. Tie to VIN if shutdown feature is not used. The EN/UVLO threshold is accurate (See Datasheet)", 3 VIN (power) "The VIN pin supplies current to the LT3990’s internal circuitry and to the internal power switch. This pin must be locally bypassed.", 4 GND (power) "Ground.", 5 GND (power) "Ground.", 6 SW (power) "The SW pin is the output of an internal power switch. Connect this pin to the inductor.", 7 BOOST "This pin is used to provide a drive voltage, higher than the input voltage, to the internal bipolar NPN power switch.", 8 BD (power) "This pin connects to the anode of the boost diode. This pin also supplies current to the LT3990’s internal regulator when BD is above 3.2V.", 9 PG (oc) "The PG pin is the open-drain output of an internal comparator. PG remains low until the FB pin is within 10% of the final regulation voltage. PG is valid when VIN is above 4.2V and EN/UVLO is high.", 10 RT "A resistor is tied between RT and ground to set the switching frequency.", 11 EP (power) "The exposed pad must be soldered to the PCB."